# Altium footprint library Components.PcbLib: 28 footprints (part 2 of 2)
Each footprint in its own frame and in the unit in brackets; x right, y up, seen from the top. Pads: shape width x height; smd on the part's side, far side on the other; paste and mask are expansions set on the pad; w line width, h text height; cw(c..) or ccw(c..) is an arc to the next point about the centre after c.
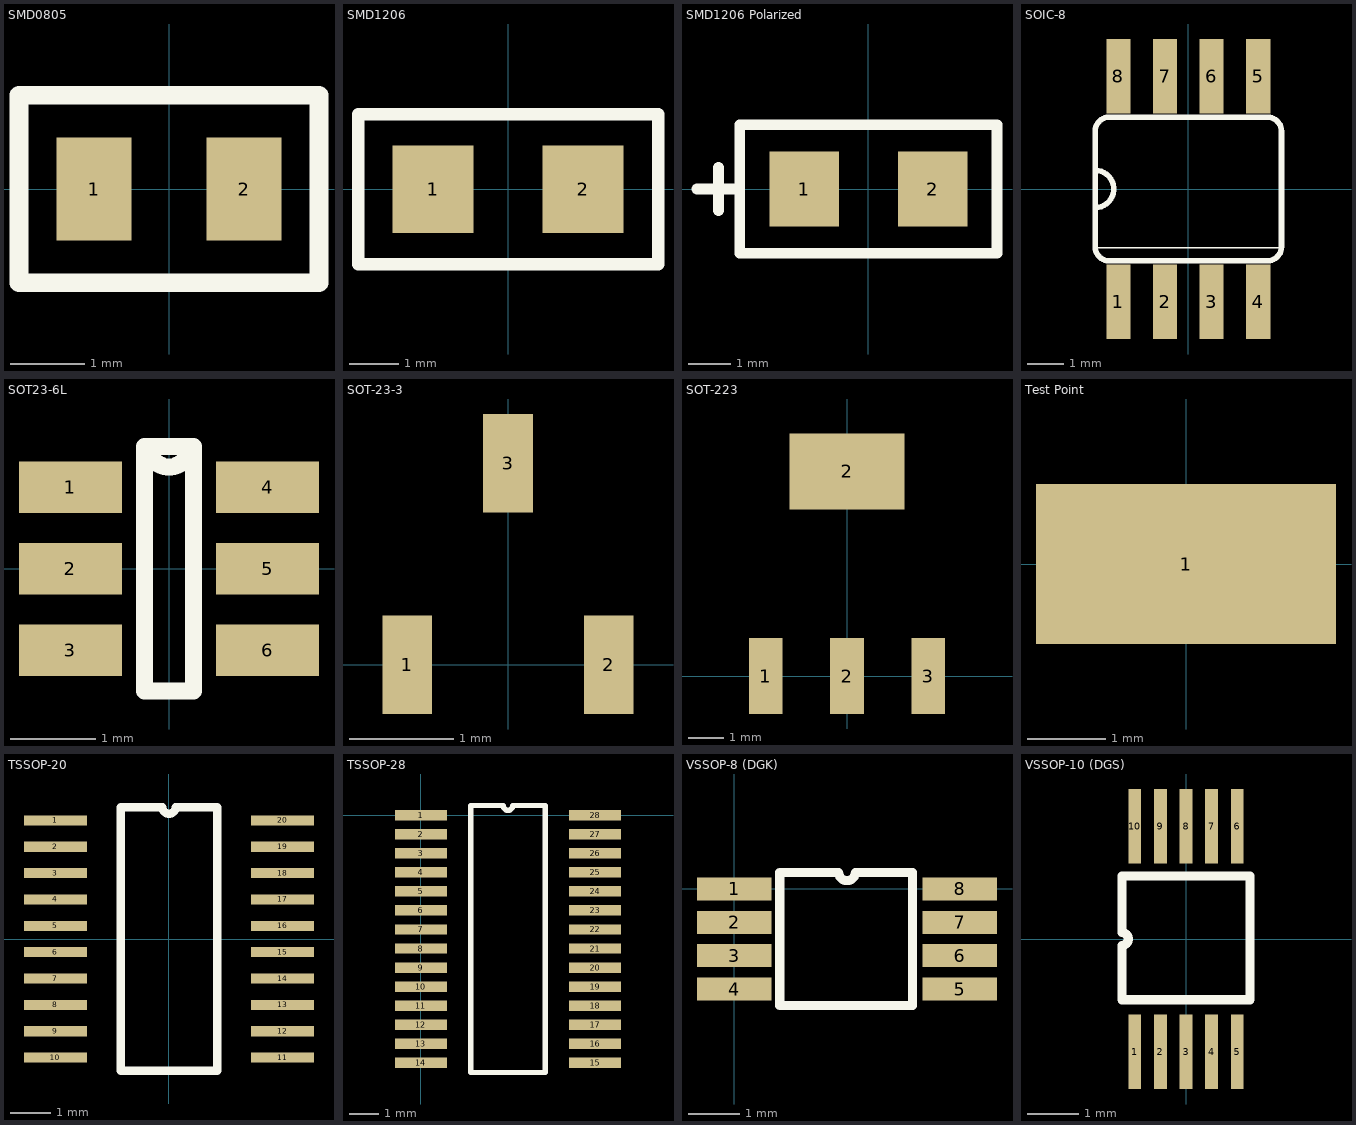
[diagram p1: the footprints below, top view; thin cyan lines are the x and y axes]

## SMD0805 [mil]
pads (2):
  rect 40x55 smd: 1(-40,0) 2(40,0)
Top Overlay:
  lines w10: -80,-50 -80,-7.5 -80,50 80,50 80,-50 -80,-50
3D body: height 19.68, standoff 0, extent -39.36,-24.8 39.38,24.42

## SMD1206 [mil]
pads (2):
  rect 65x70 smd: 1(-60,0) 2(60,0)
Top Overlay:
  lines w10: -120,-60 120,-60 120,60 -120,60 -120,-60
3D body: height 21.65, standoff 0, extent -61.02,-30.39 61.03,30.71

## SMD1206 Polarized [mil]
pads (2):
  rect 65x70 smd: 1(-60,0) 2(60,0)
Top Overlay:
  lines w10: -160,0 -120,0 ; -140,-20 -140,20 ; -120,-60 120,-60 120,60 -120,60 -120,-60
3D body: height 21.65, standoff 0, extent -61.02,-30.4 61.03,30.71

## SOIC-8 [mil]
pads (8):
  rect 26x80 smd mask+3: 1(-75,-121) 2(-25,-121) 3(25,-121) 4(75,-121) 5(75,121) 6(25,121) 7(-25,121) 8(-75,121)
Top Overlay:
  lines w2: -100,-63 100,-63
  lines w6: -100,-20 ccw(c-100,0) -100,20 ; -100,-20 -100,-62 ccw(c-85,-62) -85,-77 85,-77 ccw(c85,-62) 100,-62 100,62 ccw(c85,62) 85,77 -85,77 ccw(c-85,62) -100,62 -100,20 ; -100,-20 -100,20
3D body: height 68, standoff 0, extent -103,-76 103,76

## SOT23-6L [mm]
pads (6):
  rect 1.2x0.6 smd: 1(-1.15,0.95) 2(-1.15,0) 3(-1.15,-0.95) 4(1.15,0.95) 5(1.15,0) 6(1.15,-0.95)
Top Overlay:
  lines w0.2: -0.285,-1.425 -0.285,1.425 0.238,1.425 cw(c0,1.425) -0.238,1.425 0.285,1.425 0.285,-1.425 -0.285,-1.425

## SOT-23-3 [mm]
pads (3):
  rect 0.48x0.95 smd mask+0.076: 1(-0.97,0) 2(0.97,0) 3(0,1.94)

## SOT-223 [mm]
pads (4):
  rect 0.95x2.15 smd mask+0.076: 1(-2.3,0) 2(0,0) 3(2.3,0)
  rect 3.25x2.15 smd mask+0.076: 2(0,5.8)

## Test Point [mil]
pads (1):
  rect 150x80 smd: 1(0,0)
3D body: height 90, standoff 1, extent -75,-30 75,30

## TSSOP-20 [mm] "Specifically: PW (R-PDSO-G20)"
pads (20):
  rect 1.55x0.25 smd: 1(-2.8,2.925) 2(-2.8,2.275) 3(-2.8,1.625) 4(-2.8,0.975) 5(-2.8,0.325) 6(-2.8,-0.325) 7(-2.8,-0.975) 8(-2.8,-1.625) 9(-2.8,-2.275) 10(-2.8,-2.925) 11(2.8,-2.925) 12(2.8,-2.275) 13(2.8,-1.625) 14(2.8,-0.975) 15(2.8,-0.325) 16(2.8,0.325) 17(2.8,0.975) 18(2.8,1.625) 19(2.8,2.275) 20(2.8,2.925)
Top Overlay:
  lines w0.2: -1.19,-3.25 -1.19,3.25 -0.162,3.25 ccw(c0,3.25) 0.162,3.25 1.19,3.25 1.19,-3.25 -1.19,-3.25

## TSSOP-28 [mm]
pads (28):
  rect 1.78x0.356 smd mask+0.051: 1(0,0) 2(0,-0.65) 3(0,-1.3) 4(0,-1.95) 5(0,-2.6) 6(0,-3.25) 7(0,-3.9) 8(0,-4.55) 9(0,-5.2) 10(0,-5.85) 11(0,-6.5) 12(0,-7.15) 13(0,-7.8) 14(0,-8.45) 15(5.94,-8.45) 16(5.94,-7.8) 17(5.94,-7.15) 18(5.94,-6.5) 19(5.94,-5.85) 20(5.94,-5.2) 21(5.94,-4.55) 22(5.94,-3.9) 23(5.94,-3.25) 24(5.94,-2.6) 25(5.94,-1.95) 26(5.94,-1.3) 27(5.94,-0.65) 28(5.94,0)
Top Overlay:
  lines w0.178: 1.703,-8.775 1.703,0.325 2.808,0.325 ccw(c2.97,0.325) 3.132,0.325 4.237,0.325 4.237,-8.775 1.703,-8.775

## VSSOP-8 (DGK) [mm]
pads (8):
  rect 1.45x0.45 smd mask+0.025: 1(0,0) 2(0,-0.65) 3(0,-1.3) 4(0,-1.95) 5(4.4,-1.95) 6(4.4,-1.3) 7(4.4,-0.65) 8(4.4,0)
Top Overlay:
  lines w0.178: 3.429,-2.275 0.889,-2.275 0.889,0.325 2.037,0.325 ccw(c2.2,0.325) 2.362,0.325 3.429,0.325 ; 3.48,-2.275 3.48,0.325

## VSSOP-10 (DGS) [mm]
height 1.1
pads (10):
  rect 0.25x1.45 smd mask+0.05: 1(-1,-2.2) 2(-0.5,-2.2) 3(0,-2.2) 4(0.5,-2.2) 5(1,-2.2) 6(1,2.2) 7(0.5,2.2) 8(0,2.2) 9(-0.5,2.2) 10(-1,2.2)
Top Overlay:
  lines w0.178: -1.25,-1.184 1.25,-1.184 1.25,1.229 -1.25,1.229 -1.25,0.125 cw(c-1.25,0) -1.25,-0.125 -1.25,-1.184